# EAGLE library part W25Q128 (library 1-LDA_Board)
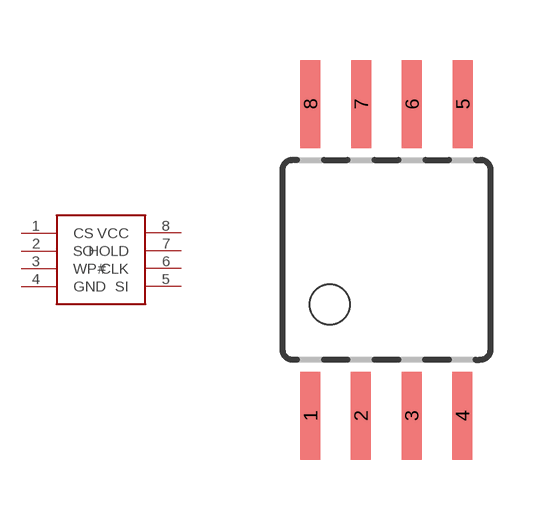
[diagram p5: symbol with the pads of SOP08; footprint SOP08]

Designator prefix -

## W25Q128  [SOP08]
1  CS
2  SO
3  WP#
4  GND
5  SI
6  CLK
7  HOLD
8  VCC

## Footprint SOP08 (pad centres in mm)
Small Outline Package
smd 0.5 x 2.2: 1 -1.905,-3.9; 2 -0.645,-3.9; 3 0.625,-3.9; 4 1.895,-3.9; 5 1.905,3.9; 6 0.635,3.9; 7 -0.635,3.9; 8 -1.905,3.9